# EAGLE library part 61001618221 (library Wurth_Elektronik2)
WR-PHD 2.54mm SMT Pin Header, 16 Pins =>Code : Con_BTB_PHD_2.54_1_SMT_61001618221 <http://katalog.we-online.de/media/images/eican/Con_BTB_PHD_2.54_1_SMT_6100xx18221_pf2.jpg> Details see: http://katalog.we-online.de/en/em/610_0xx_182_21 Created 2014-05-29, Karrer Zheng 2014 (C) Würth Elektronik
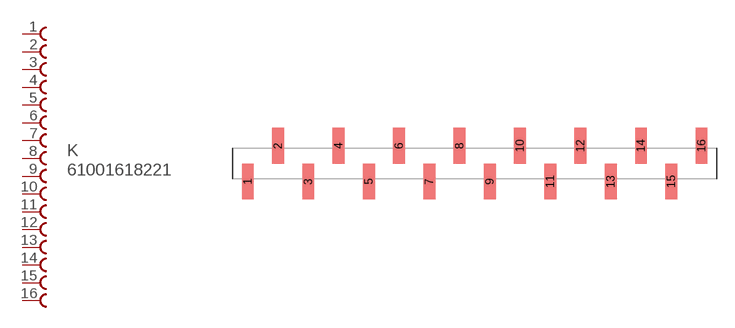
[diagram p64: symbol with the pads of 61001618221; footprint 61001618221]

Designator prefix K

## 61001618221  [61001618221]
1  1  pas
2  2  pas
3  3  pas
4  4  pas
5  5  pas
6  6  pas
7  7  pas
8  8  pas
9  9  pas
10  10  pas
11  11  pas
12  12  pas
13  13  pas
14  14  pas
15  15  pas
16  16  pas

## Footprint 61001618221 (pad centres in mm)
WR-PHD 2.54mm SMT Pin Header, 16 Pins
smd 1 x 3: 1 -16.51,-1.5; 2 -13.97,1.5; 3 -11.43,-1.5; 4 -8.89,1.5; 5 -6.35,-1.5; 6 -3.81,1.5; 7 -1.27,-1.5; 8 1.27,1.5; 9 3.81,-1.5; 10 6.35,1.5; 11 8.89,-1.5; 12 11.43,1.5; 13 13.97,-1.5; 14 16.51,1.5; 15 19.05,-1.5; 16 21.59,1.5